# Altium schematic symbol library Wurth Electronic.SchLib: 5 symbols
Pins are listed as number, name and electrical type; pins without a type are passive.

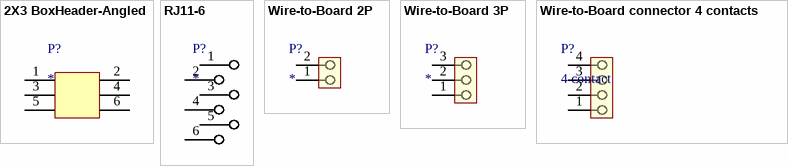
[diagram p0: symbols 2X3 BoxHeader-Angled to Wire-to-Board connector 4 contacts]

## 2X3 BoxHeader-Angled
designator P?
footprint 2X3 box header-angled
pins: 1 (power), 2 (power), 3 (power), 4 (power), 5 (power), 6 (power)

## RJ11-6
designator P?
footprint RJ11-6pin (6pin version)
pins: 1 "Header Pin", 2 "Header Pin", 3 "Header Pin", 4 "Header Pin", 5 "Header Pin", 6 "Header Pin"

## Wire-to-Board 2P
designator P?
footprint WtB-F-2p
footprint WtB-F-2p_V
pins: 1 "Header Pin", 2 "Header Pin"

## Wire-to-Board 3P
designator P?
footprint 1X3 Headerpin Angled
pins: 1 "Header Pin", 2 "Header Pin", 3 "Header Pin"

## Wire-to-Board connector 4 contacts
designator P?, comment 4 contact
Wire-to-Board connector
footprint WtB-F-4p
pins: 1 "Header Pin", 2 "Header Pin", 3 "Header Pin", 4 "Header Pin"